# EAGLE library part LM358PW (library iridia)
DUAL OPERATIONAL AMPLIFIERS
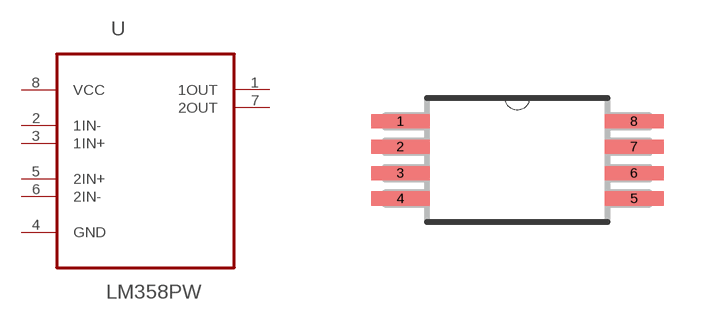
[diagram p13: symbol with the pads of 8-TSSOP_4.4MM; footprint 8-TSSOP_4.4MM]

Designator prefix U

## LM358PW (MPN: LM358PW; OC_FARNELL: 8389250; OC_NEWARK: 38K3721; PACKAGE: TSSOP-8; SUPPLIER: Texas Instruments)  [8-TSSOP_4.4MM]
1  1OUT  out
2  1IN-  in
3  1IN+  in
4  GND  pas
5  2IN+  in
6  2IN-  in
7  2OUT  out
8  VCC  pwr

## Footprint 8-TSSOP_4.4MM (pad centres in mm)
smd 1.473 x 0.356: 1 -2.921,0.965; 2 -2.921,0.33; 3 -2.921,-0.33; 4 -2.921,-0.965; 5 2.921,-0.965; 6 2.921,-0.33; 7 2.921,0.33; 8 2.921,0.965